# EAGLE library part WS2801 (library MF_IC_Digital)
Manufacturer Part #: WS2801 Manufacturer: WorldSemi Description: 3-channel constant current LED driver
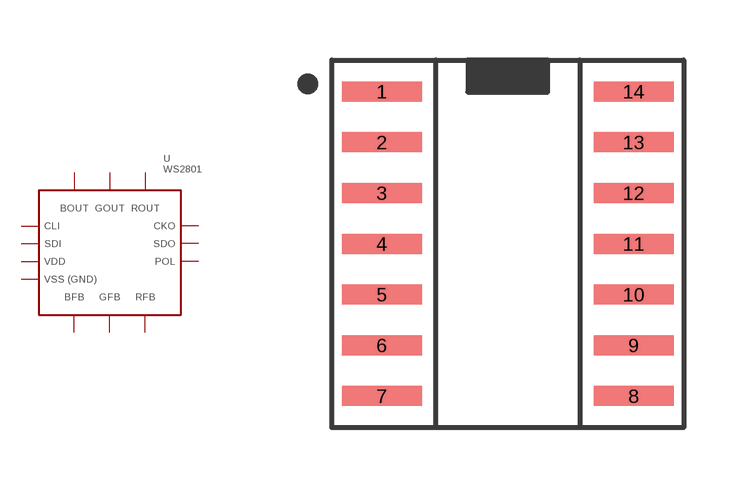
[diagram p5: symbol with the pads of SOP14; footprint SOP14]

Designator prefix U

## WS2801SO (HOUSEPART: YES; MPN: MF-IC-SOP14-WS2801; POPULATE: 1; URL: https://factory.macrofab.com/part/MF-IC-SOP14-WS2801; VALUE: MF-IC-SOP14-WS2801)  [SOP14]
1  CLI
2  SDI
3  POL
4  RFB
5  GFB
6  BFB
7  GND
8  BOUT
9  GOUT
10  ROUT
12  SDO
13  CKO
14  VDD

## Footprint SOP14 (pad centres in mm)
Description: Standard SOP-14 Package.
smd 2 x 0.5: 1 -3.15,3.81; 2 -3.15,2.54; 3 -3.15,1.27; 4 -3.15,0; 5 -3.15,-1.27; 6 -3.15,-2.54; 7 -3.15,-3.81; 8 3.15,-3.81; 9 3.15,-2.54; 10 3.15,-1.27; 11 3.15,0; 12 3.15,1.27; 13 3.15,2.54; 14 3.15,3.81